# Altium integrated library Inductors.IntLib: 1 symbol
Pins are listed as number, name and electrical type; pins without a type are passive.

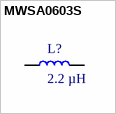
[diagram p0: symbol MWSA0603S]

## MWSA0603S
designator L?, comment 2.2 µH
2.2 µH Unshielded Wirewound Inductor 9.5 A 15mOhm Max Nonstandard - SMT; Manufacturer 1: Sunlord; Manufacturer Part Number 1: MWSA0603S-2R2MT; Description 1: Fixed Ind 2.2UH 9.5A 15MOHM SMD; Inductance: 2.2 µH; RoHS: No; Category: Fixed Inductors; Stock 1: 14175; Pricing 1: 5=1.10600, 50=0.83570, 150=0.78600, 500=0.73630, 2500=0.71430, 5000=0.70350, 5=1.06860, 50=0.80740, 150=0.75950, 500=0.71150, 2500=0.69010, 5000=0.67970, 5=5.58980, 50=4.22360, 150=3.97260, 500=3.72150, 2500=3.61000, 5000=3.55550, 5=5.30720, 50=4.01010, 150=3.77180, 500=3.53340, 2500=3.42750, 5000=3.37570, 5=0.71380, 50=0.53930, 150=0.50730, 500=0.47520, 2500=0.46100, 5000=0.45400, 5=0.62040, 50=0.46880, 150=0.44090, 500=0.41310, 2500=0.40070, 5000=0.39460, 5=6.68800, 50=5.05350, 150=4.75310, 500=4.45270, 2500=4.31920, 5000=4.25410, 5=93.30920, 50=70.50440, 150=66.31370, 500=62.12310, 2500=60.26060, 5000=59.35100, 5=3.53210, 50=2.66890, 150=2.51020, 500=2.35160, 2500=2.28110, 5000=2.24670, 5=64.61240, 50=48.82110, 150=45.91930, 500=43.01750, 2500=41.72780, 5000=41.09790, 5=7.22700, 50=5.46070, 150=5.13610, 500=4.81160, 2500=4.66730, 5000=4.59690, 5=1.14310, 50=0.86370, 150=0.81240, 500=0.76100, 2500=0.73820, 5000=0.72710, 5=0.86170, 50=0.65110, 150=0.61240, 500=0.57370, 2500=0.55650, 5000=0.54810 (AUD); Supplier 1: LCSC; Supplier Part Number 1: C408445; Supplier 2: Digi-Key; Supplier Part Number 2: 3442-MWSA0603S-2R2MTCT-ND
footprint MWSA0603S-2R2MT (FIXED IND 6.6*7.0*3.0(mm))
pins: 1, 2